# EAGLE library part J-22- (library con-headers-jp)
HEADER JACK PINS
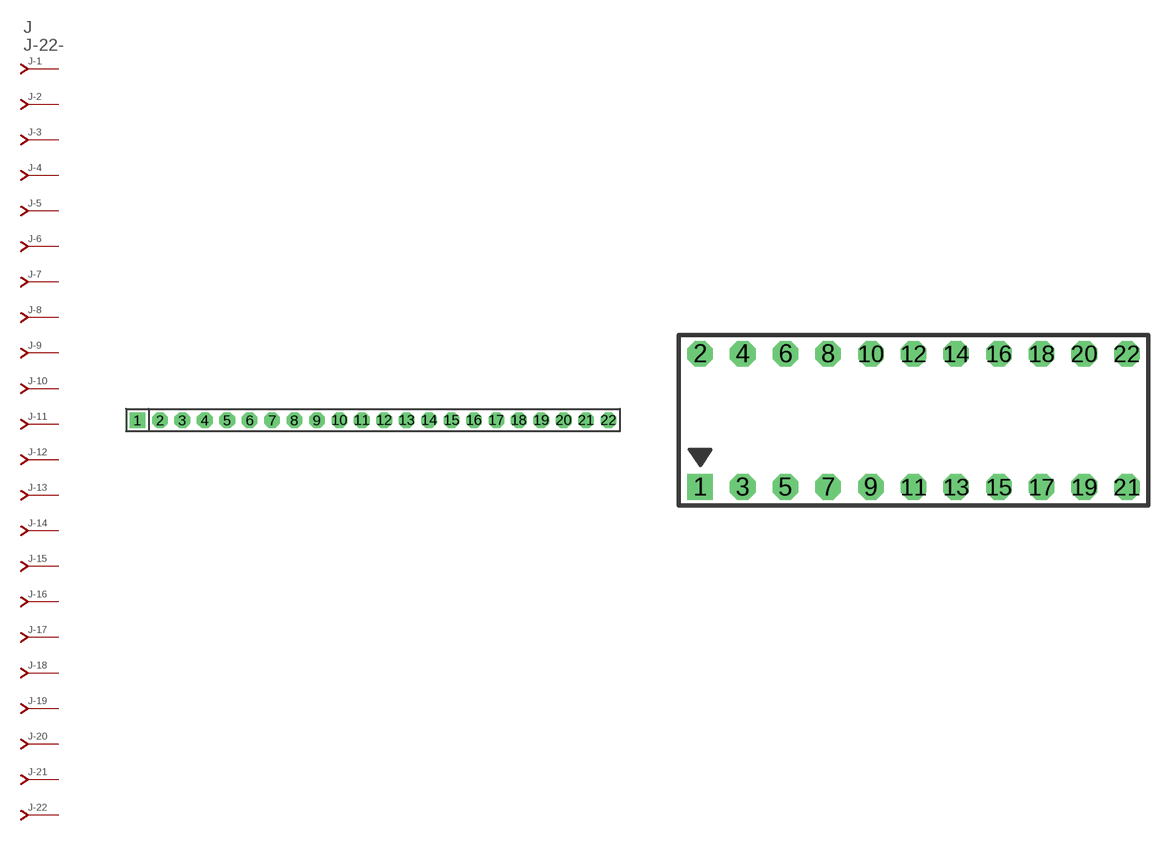
[diagram p8: symbol with the pads of SIP-100-22-40; footprints SIP-100-22-40, 535512-22]

Designator prefix J; gates -2=J-N -3=J-N -4=J-N -5=J-N -6=J-N -7=J-N -8=J-N -9=J-N -10=J-N -11=J-N -12=J-N -13=J-N -14=J-N -15=J-N -16=J-N -17=J-N -18=J-N -19=J-N -20=J-N -21=J-N -22=J-N -1=J-NV

## J-22-SIP-100-40  [SIP-100-22-40]
1  -1:J  pas
2  -2:J  pas
3  -3:J  pas
4  -4:J  pas
5  -5:J  pas
6  -6:J  pas
7  -7:J  pas
8  -8:J  pas
9  -9:J  pas
10  -10:J  pas
11  -11:J  pas
12  -12:J  pas
13  -13:J  pas
14  -14:J  pas
15  -15:J  pas
16  -16:J  pas
17  -17:J  pas
18  -18:J  pas
19  -19:J  pas
20  -20:J  pas
21  -21:J  pas
22  -22:J  pas

## J-22-535512  [535512-22]
Pads as for SIP-100-22-40

## J-22-79107  [79107-22]
Pads as for SIP-100-22-40

## J-22-79109  [79109-22]
Pads as for SIP-100-22-40

## J-22-87264  [87264-22]
Pads as for SIP-100-22-40

## J-22-87368  [87368-22]
Pads as for SIP-100-22-40

## J-22-100-2X11  [DIL-100-2X11]
Pads as for SIP-100-22-40

## J-22-100-2X11_M  [DIL-100-2X11_M]
Pads as for SIP-100-22-40

## J-22-2MM-2X11  [DIL-2MM-2X11]
Pads as for SIP-100-22-40

## J-22-2MM-2X11_M  [DIL-2MM-2X11_M]
Pads as for SIP-100-22-40

## J-22-SIP-100-32  [SIP-100-22-32]
Pads as for SIP-100-22-40

## J-22-SIP-100-40Y  [SIP-100-22-40Y]
Pads as for SIP-100-22-40

## J-22-SIP-100-32Y  [SIP-100-22-32Y]
Pads as for SIP-100-22-40

## J-22-71991  [71991-22]
Pads as for SIP-100-22-40

## J-22-KK-4455-B22  [KK-4455-B22]
Pads as for SIP-100-22-40

## J-22-KK-4455-A22  [KK-4455-A22]
Pads as for SIP-100-22-40

## J-22-KK-4455-C22  [KK-4455-C22]
Pads as for SIP-100-22-40

## Footprint SIP-100-22-40 (pad centres in mm)
SIP Header - 0.1", 40 mil drill
drill 1.016 pad 1.778 square: 1 -26.67,0
drill 1.016 pad 1.778 octagon: 2 -24.13,0; 3 -21.59,0; 4 -19.05,0; 5 -16.51,0; 6 -13.97,0; 7 -11.43,0; 8 -8.89,0; 9 -6.35,0; 10 -3.81,0; 11 -1.27,0; 12 1.27,0; 13 3.81,0; 14 6.35,0; 15 8.89,0; 16 11.43,0; 17 13.97,0; 18 16.51,0; 19 19.05,0; 20 21.59,0; 21 24.13,0; 22 26.67,0

## Footprint 535512-22 (pad centres in mm)
AMPMODU - 535512 Series
drill 1.016 square: 1 -12.7,0
drill 1.016 octagon: 2 -12.7,7.938; 3 -10.16,0; 4 -10.16,7.938; 5 -7.62,0; 6 -7.62,7.938; 7 -5.08,0; 8 -5.08,7.938; 9 -2.54,0; 10 -2.54,7.938; 11 0,0; 12 0,7.938; 13 2.54,0; 14 2.54,7.938; 15 5.08,0; 16 5.08,7.938; 17 7.62,0; 18 7.62,7.938; 19 10.16,0; 20 10.16,7.938; 21 12.7,0; 22 12.7,7.938

## Footprint 79107-22 (pad centres in mm)
Molex Board-To-Board Receptacal 2.00mm (.079") Pitch Milli-Grid Header, Vertical, Through-Hole Mates with: 87759, 87762, 87758, 87760
drill 0.711 square: 1 -10,-1
drill 0.711 round: 2 -10,1; 3 -8,-1; 4 -8,1; 5 -6,-1; 6 -6,1; 7 -4,-1; 8 -4,1; 9 -2,-1; 10 -2,1; 11 0,-1; 12 0,1; 13 2,-1; 14 2,1; 15 4,-1; 16 4,1; 17 6,-1; 18 6,1; 19 8,-1; 20 8,1; 21 10,-1; 22 10,1

## Footprint 79109-22 (pad centres in mm)
Molex Board-to-Board Receptacal 2.00mm (.079") Pitch Milli-Grid Header, Vertical, Top/Bottom Entry Mates with: 87758, 87759, 87760, 87831, 87832, 87833
smd 1.12 x 1.83: 1 -10,-2.65; 2 -10,2.65; 3 -8,-2.65; 4 -8,2.65; 5 -6,-2.65; 6 -6,2.65; 7 -4,-2.65; 8 -4,2.65; 9 -2,-2.65; 10 -2,2.65; 11 0,-2.65; 12 0,2.65; 13 2,-2.65; 14 2,2.65; 15 4,-2.65; 16 4,2.65; 17 6,-2.65; 18 6,2.65; 19 8,-2.65; 20 8,2.65; 21 10,-2.65; 22 10,2.65
hole 0.914 at -9,0
hole 0.914 at -10,1
hole 0.914 at -10,-1
hole 0.914 at -8,-1
hole 0.914 at -8,1
hole 0.914 at -6,-1
hole 0.914 at -6,1
hole 0.914 at 9,0
hole 0.914 at -4,1
hole 0.914 at -4,-1
hole 0.914 at -2,1
hole 0.914 at -2,-1
hole 0.914 at 0,1
hole 0.914 at 0,-1
hole 0.914 at 2,1
hole 0.914 at 2,-1
hole 0.914 at 4,-1
hole 0.914 at 4,1
hole 0.914 at 6,1
hole 0.914 at 6,-1
hole 0.914 at 8,1
hole 0.914 at 8,-1
hole 0.914 at 10,1
hole 0.914 at 10,-1

## Footprint 87264-22 (pad centres in mm)
Molex Board-To-Board Receptacal 2.00mm (.079") Pitch Milli-Grid Header, Side Entry Mates with 2mm(.079") Mill-Grid Header
drill 0.914 square: 1 -10,-2.25
drill 0.914 round: 2 -10,2.25; 3 -8,-2.25; 4 -8,2.25; 5 -6,-2.25; 6 -6,2.25; 7 -4,-2.25; 8 -4,2.25; 9 -2,-2.25; 10 -2,2.25; 11 0,-2.25; 12 0,2.25; 13 2,-2.25; 14 2,2.25; 15 4,-2.25; 16 4,2.25; 17 6,-2.25; 18 6,2.25; 19 8,-2.25; 20 8,2.25; 21 10,-2.25; 22 10,2.25

## Footprint 87368-22 (pad centres in mm)
Molex Board-To-Board Receptacal 2.00mm (.079") Pitch Milli-Grid Header, Side Entry SMD Mates with 2mm(.079") Mill-Grid Header
smd 1 x 2.8: 1 -10,-3.1; 2 -10,3.1; 3 -8,-3.1; 4 -8,3.1; 5 -6,-3.1; 6 -6,3.1; 7 -4,-3.1; 8 -4,3.1; 9 -2,-3.1; 10 -2,3.1; 11 0,-3.1; 12 0,3.1; 13 2,-3.1; 14 2,3.1; 15 4,-3.1; 16 4,3.1; 17 6,-3.1; 18 6,3.1; 19 8,-3.1; 20 8,3.1; 21 10,-3.1; 22 10,3.1
hole 0.914 at -10,0
hole 0.914 at 0,0

## Footprint DIL-100-2X11 (pad centres in mm)
PIN HEADER - 0.1"
drill 1.016 square: 1 -12.7,-1.27
drill 1.016 octagon: 2 -12.7,1.27; 3 -10.16,-1.27; 4 -10.16,1.27; 5 -7.62,-1.27; 6 -7.62,1.27; 7 -5.08,-1.27; 8 -5.08,1.27; 9 -2.54,-1.27; 10 -2.54,1.27; 11 0,-1.27; 12 0,1.27; 13 2.54,-1.27; 14 2.54,1.27; 15 5.08,-1.27; 16 5.08,1.27; 17 7.62,-1.27; 18 7.62,1.27; 19 10.16,-1.27; 20 10.16,1.27; 21 12.7,-1.27; 22 12.7,1.27

## Footprint DIL-100-2X11_M (pad centres in mm)
PIN HEADER - MIRRORED 0.1"
drill 1.016 square: 1 -12.7,1.27
drill 1.016 octagon: 2 -12.7,-1.27; 3 -10.16,1.27; 4 -10.16,-1.27; 5 -7.62,1.27; 6 -7.62,-1.27; 7 -5.08,1.27; 8 -5.08,-1.27; 9 -2.54,1.27; 10 -2.54,-1.27; 11 0,1.27; 12 0,-1.27; 13 2.54,1.27; 14 2.54,-1.27; 15 5.08,1.27; 16 5.08,-1.27; 17 7.62,1.27; 18 7.62,-1.27; 19 10.16,1.27; 20 10.16,-1.27; 21 12.7,1.27; 22 12.7,-1.27

## Footprint DIL-2MM-2X11 (pad centres in mm)
PIN HEADER - 2MM"
drill 0.711 square: 1 -10,-1
drill 0.711 round: 2 -10,1; 3 -8,-1; 4 -8,1; 5 -6,-1; 6 -6,1; 7 -4,-1; 8 -4,1; 9 -2,-1; 10 -2,1; 11 0,-1; 12 0,1; 13 2,-1; 14 2,1; 15 4,-1; 16 4,1; 17 6,-1; 18 6,1; 19 8,-1; 20 8,1; 21 10,-1; 22 10,1

## Footprint DIL-2MM-2X11_M (pad centres in mm)
PIN HEADER - MIRRORED 2MM
drill 0.711 square: 1 -10,1
drill 0.711 round: 2 -10,-1; 3 -8,1; 4 -8,-1; 5 -6,1; 6 -6,-1; 7 -4,1; 8 -4,-1; 9 -2,1; 10 -2,-1; 11 0,1; 12 0,-1; 13 2,1; 14 2,-1; 15 4,1; 16 4,-1; 17 6,1; 18 6,-1; 19 8,1; 20 8,-1; 21 10,1; 22 10,-1

## Footprint SIP-100-22-32 (pad centres in mm)
SIP Header - 0.1", 32 mil drill
drill 0.813 pad 1.778 square: 1 -26.67,0
drill 0.813 pad 1.778 octagon: 2 -24.13,0; 3 -21.59,0; 4 -19.05,0; 5 -16.51,0; 6 -13.97,0; 7 -11.43,0; 8 -8.89,0; 9 -6.35,0; 10 -3.81,0; 11 -1.27,0; 12 1.27,0; 13 3.81,0; 14 6.35,0; 15 8.89,0; 16 11.43,0; 17 13.97,0; 18 16.51,0; 19 19.05,0; 20 21.59,0; 21 24.13,0; 22 26.67,0

## Footprint SIP-100-22-40Y (pad centres in mm)
SIP Header - 0.1", 40 mil drill
drill 1.016 long: 1 -26.67,0; 2 -24.13,0; 3 -21.59,0; 4 -19.05,0; 5 -16.51,0; 6 -13.97,0; 7 -11.43,0; 8 -8.89,0; 9 -6.35,0; 10 -3.81,0; 11 -1.27,0; 12 1.27,0; 13 3.81,0; 14 6.35,0; 15 8.89,0; 16 11.43,0; 17 13.97,0; 18 16.51,0; 19 19.05,0; 20 21.59,0; 21 24.13,0; 22 26.67,0

## Footprint SIP-100-22-32Y (pad centres in mm)
SIP Header - 0.1", 32 mil drill
drill 0.813 long: 1 -26.67,0; 2 -24.13,0; 3 -21.59,0; 4 -19.05,0; 5 -16.51,0; 6 -13.97,0; 7 -11.43,0; 8 -8.89,0; 9 -6.35,0; 10 -3.81,0; 11 -1.27,0; 12 1.27,0; 13 3.81,0; 14 6.35,0; 15 8.89,0; 16 11.43,0; 17 13.97,0; 18 16.51,0; 19 19.05,0; 20 21.59,0; 21 24.13,0; 22 26.67,0

## Footprint 71991-22 (pad centres in mm)
FCI - Dual Entry Female Pass Through, 0.1" spacing
drill 0.813 square: 1 -12.7,-3.81
drill 0.813 octagon: 2 -12.7,3.81; 3 -10.16,-3.81; 4 -10.16,3.81; 5 -7.62,-3.81; 6 -7.62,3.81; 7 -5.08,-3.81; 8 -5.08,3.81; 9 -2.54,-3.81; 10 -2.54,3.81; 11 0,-3.81; 12 0,3.81; 13 2.54,-3.81; 14 2.54,3.81; 15 5.08,-3.81; 16 5.08,3.81; 17 7.62,-3.81; 18 7.62,3.81; 19 10.16,-3.81; 20 10.16,3.81; 21 12.7,-3.81; 22 12.7,3.81
hole 1.422 at -12.7,-1.27
hole 1.422 at -12.7,1.27
hole 1.422 at -10.16,1.27
hole 1.422 at -10.16,-1.27
hole 1.422 at -7.62,1.27
hole 1.422 at -7.62,-1.27
hole 1.422 at -5.08,1.27
hole 1.422 at -5.08,-1.27
hole 1.422 at -2.54,1.27
hole 1.422 at -2.54,-1.27
hole 1.422 at 0,1.27
hole 1.422 at 0,-1.27
hole 1.422 at 2.54,1.27
hole 1.422 at 2.54,-1.27
hole 1.422 at 5.08,1.27
hole 1.422 at 5.08,-1.27
hole 1.422 at 7.62,1.27
hole 1.422 at 7.62,-1.27
hole 1.422 at 10.16,1.27
hole 1.422 at 10.16,-1.27
hole 1.422 at 12.7,1.27
hole 1.422 at 12.7,-1.27

## Footprint KK-4455-B22 (pad centres in mm)
KK100 Molex 4455 Series, Vertical, Bottom Entry, 0.1" pitch
drill 1.067 long: 1 -26.67,0; 2 -24.13,0; 3 -21.59,0; 4 -19.05,0; 5 -16.51,0; 6 -13.97,0; 7 -11.43,0; 8 -8.89,0; 9 -6.35,0; 10 -3.81,0; 11 -1.27,0; 12 1.27,0; 13 3.81,0; 14 6.35,0; 15 8.89,0; 16 11.43,0; 17 13.97,0; 18 16.51,0; 19 19.05,0; 20 21.59,0; 21 24.13,0; 22 26.67,0
hole 1.778 at -26.67,3.81
hole 1.778 at -24.13,3.81
hole 1.778 at -21.59,3.81
hole 1.778 at -19.05,3.81
hole 1.778 at -16.51,3.81
hole 1.778 at -13.97,3.81
hole 1.778 at -11.43,3.81
hole 1.778 at -8.89,3.81
hole 1.778 at -6.35,3.81
hole 1.778 at -3.81,3.81
hole 1.778 at -1.27,3.81
hole 1.778 at 1.27,3.81
hole 1.778 at 3.81,3.81
hole 1.778 at 6.35,3.81
hole 1.778 at 8.89,3.81
hole 1.778 at 11.43,3.81
hole 1.778 at 13.97,3.81
hole 1.778 at 16.51,3.81
hole 1.778 at 19.05,3.81
hole 1.778 at 21.59,3.81
hole 1.778 at 24.13,3.81
hole 1.778 at 26.67,3.81

## Footprint KK-4455-A22 (pad centres in mm)
KK100 Molex 4455 Series, Right Angle, 0.1" pitch
drill 1.067 long: 1 -26.67,0; 2 -24.13,0; 3 -21.59,0; 4 -19.05,0; 5 -16.51,0; 6 -13.97,0; 7 -11.43,0; 8 -8.89,0; 9 -6.35,0; 10 -3.81,0; 11 -1.27,0; 12 1.27,0; 13 3.81,0; 14 6.35,0; 15 8.89,0; 16 11.43,0; 17 13.97,0; 18 16.51,0; 19 19.05,0; 20 21.59,0; 21 24.13,0; 22 26.67,0

## Footprint KK-4455-C22 (pad centres in mm)
KK100 Molex 4455 Series, Vertical, Top Entry, 0.1" pitch
drill 1.016 pad 1.778 octagon: 1 -26.67,0; 2 -24.13,0; 3 -21.59,0; 4 -19.05,0; 5 -16.51,0; 6 -13.97,0; 7 -11.43,0; 8 -8.89,0; 9 -6.35,0; 10 -3.81,0; 11 -1.27,0; 12 1.27,0; 13 3.81,0; 14 6.35,0; 15 8.89,0; 16 11.43,0; 17 13.97,0; 18 16.51,0; 19 19.05,0; 20 21.59,0; 21 24.13,0; 22 26.67,0
hole 1.778 at -26.67,2.54
hole 1.778 at -24.13,2.54
hole 1.778 at -21.59,2.54
hole 1.778 at -19.05,2.54
hole 1.778 at -16.51,2.54
hole 1.778 at -13.97,2.54
hole 1.778 at -11.43,2.54
hole 1.778 at -8.89,2.54
hole 1.778 at -6.35,2.54
hole 1.778 at -3.81,2.54
hole 1.778 at -1.27,2.54
hole 1.778 at 1.27,2.54
hole 1.778 at 3.81,2.54
hole 1.778 at 6.35,2.54
hole 1.778 at 8.89,2.54
hole 1.778 at 11.43,2.54
hole 1.778 at 13.97,2.54
hole 1.778 at 16.51,2.54
hole 1.778 at 19.05,2.54
hole 1.778 at 21.59,2.54
hole 1.778 at 24.13,2.54
hole 1.778 at 26.67,2.54